# Altium schematic symbol library Schlib.SchLib: 22 symbols
Pins are listed as number, name and electrical type; pins without a type are passive.

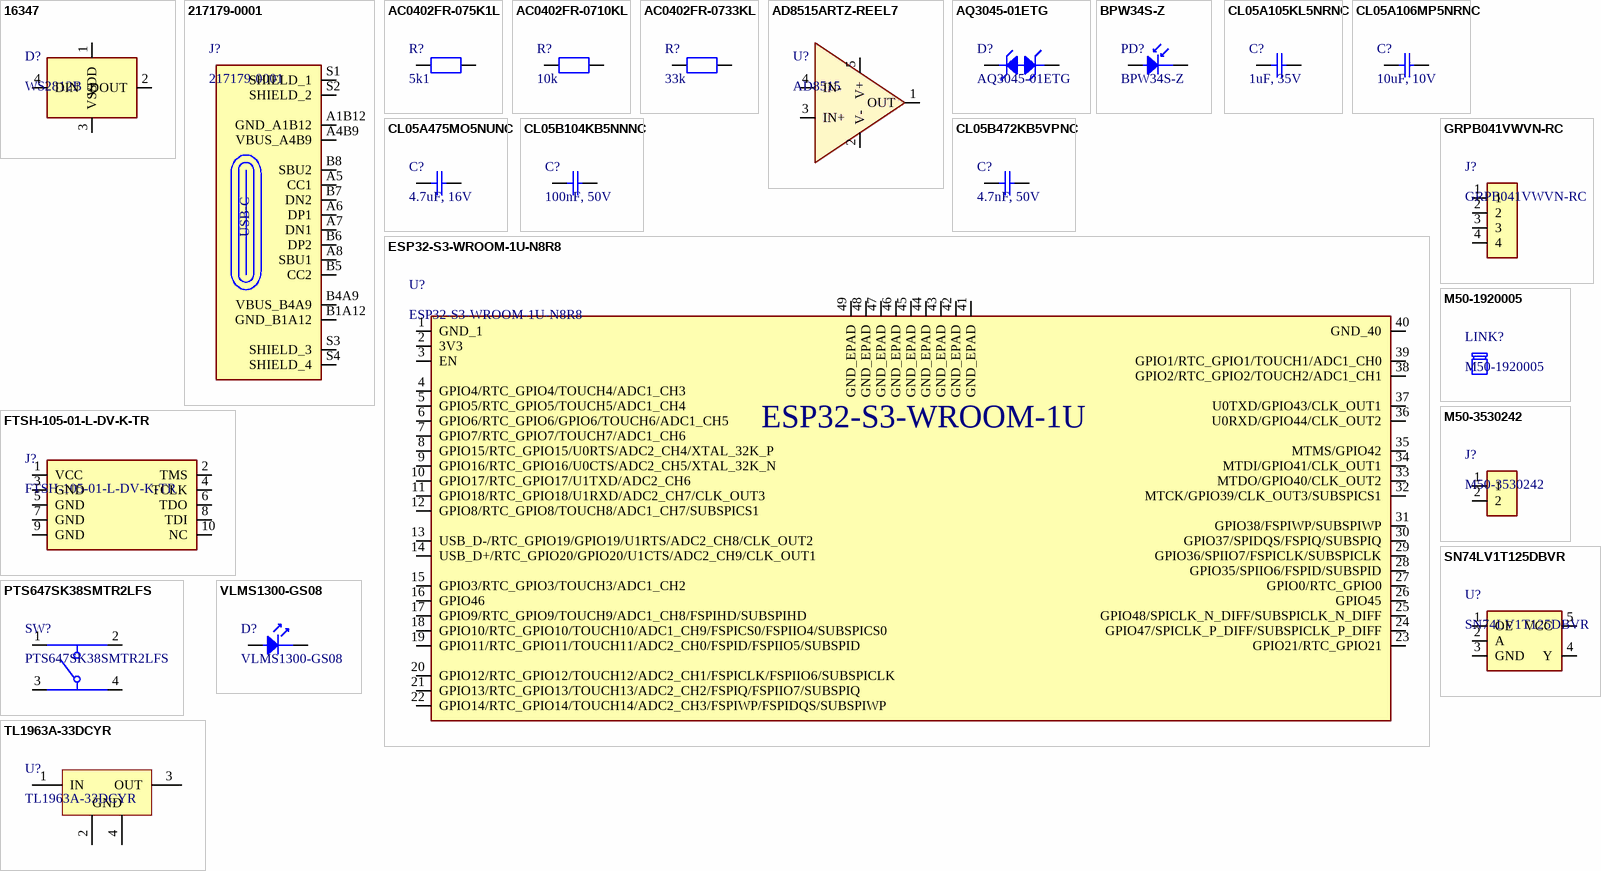
[diagram p0: symbols 16347 to VLMS1300-GS08]

## 16347
designator D?, comment WS2812B
ADDRESS LED RED/GRN/BLUE; Manufacturer: SparkFun; Manufacturer Part Number: 16347; Supplier: Digikey; Supplier Part Number: 1568-16347CT-ND; RoHS: No; Stock: 44982; Pricing: 1=0,68 (USD); LCSC Part Number: C7433145
footprint COM-16347_SPK
pins: 1 VDD, 2 DOUT, 3 VSS, 4 DIN

## 217179-0001
designator J?
CONN RCP USB2.0 TYP C 24P SMD RA; Manufacturer: Molex; Supplier: Digikey; Supplier Part Number: 900-2171790001CT-ND; Manufacturer Part Number: 217179-0001; RoHS: No; Category: Connectors; Stock: 20923; Pricing: 1=0,83, 10=0,704, 25=0,6596, 50=0,628, 100=0,598, 250=0,56052, 500=0,53374 (USD); LCSC Part Number: C3197684
footprint FP-2171790001-MFG
pins: A1B12 GND_A1B12, A4B9 VBUS_A4B9, A5 CC1, A6 DP1, A7 DN1, A8 SBU1, B1A12 GND_B1A12, B4A9 VBUS_B4A9, B5 CC2, B6 DP2, B7 DN2, B8 SBU2, S1 SHIELD_1, S2 SHIELD_2, S3 SHIELD_3, S4 SHIELD_4
text: USB-C

## AC0402FR-075K1L
designator R?, comment 5k1
RES SMD 5.1K OHM 1% 1/16W 0402; Manufacturer: Yageo; Manufacturer Part Number: AC0402FR-075K1L; Value: 5.1kR; Power Rating: 63mW; Temperature Coefficient: 100ppm/°C; Voltage Rating: 50V; Supplier: Digikey; Supplier Part Number: YAG3503CT-ND; RoHS: Yes; Category: Chip SMD Resistors; Stock: 60988; Pricing: 1=0,1, 10=0,009, 100=0,0071, 1000=0,00612, 2500=0,0051, 5000=0,00407 (USD); Mounting Technology: Surface Mount; Case/Package: 0402; Case Code (Metric): 1005; Case Code (Imperial): 0402; Min Operating Temperature: -55°C; Max Operating Temperature: 155°C; Tolerance: 1%; Number of Terminations: 2; Max Power Dissipation: 63mW; Features: Moisture Resistant,Automotive AEC-Q200; Packaging: Cut Tape; Series: AC; Length: 0.039inch; Width: 0.02inch; Height: 0.015inch; Lead Free: 5697LeadFree; RoHS Compliant: Yes; ComponentLink1URL: https://datasheet.octopart.com/AC0402FR-075K1L-Yageo-datasheet-166720450.pdf?src-supplier=Future+Electronics; ComponentLink1Description: https://datasheet.octopart.com/AC0402FR-075K1L-Yageo-datasheet-166720450.pdf?src-supplier=Future+Electronics; ComponentLink2URL: http://www.yageo.com/NewPortal/yageodocoutput?fileName=/pdf/R-Chip/PYu-AC_51_RoHS_L_6.pdf&src-supplier=Digikey; ComponentLink2Description: http://www.yageo.com/NewPortal/yageodocoutput?fileName=/pdf/R-Chip/PYu-AC_51_RoHS_L_6.pdf&src-supplier=Digikey; ComponentLink3URL: http://www.yageo.com/documents/recent/PYu-AC_51_RoHS_L_2_revised.pdf?src-supplier=Future+Electronics; ComponentLink3Description: http://www.yageo.com/documents/recent/PYu-AC_51_RoHS_L_2_revised.pdf?src-supplier=Future+Electronics; ComponentLink4URL: https://datasheet.octopart.com/AC0402FR-075K1L-Yageo-datasheet-178509465.pdf?src-supplier=Newark; ComponentLink4Description: https://datasheet.octopart.com/AC0402FR-075K1L-Yageo-datasheet-178509465.pdf?src-supplier=Newark; ComponentLink5URL: https://datasheet.octopart.com/AC0402FR-075K1L-Yageo-datasheet-178509465.pdf?src-supplier=Farnell; ComponentLink5Description: https://datasheet.octopart.com/AC0402FR-075K1L-Yageo-datasheet-178509465.pdf?src-supplier=Farnell; ComponentLink6URL: https://datasheet.octopart.com/AC0402FR-075K1L-Yageo-datasheet-178509465.pdf?src-supplier=Element14; ComponentLink6Description: https://datasheet.octopart.com/AC0402FR-075K1L-Yageo-datasheet-178509465.pdf?src-supplier=Element14; LCSC Part Number: C144745
footprint RESC1005X37N
pins: 1, 2

## AC0402FR-0710KL
designator R?, comment 10k
RES SMD 10K OHM 1% 1/16W 0402; Manufacturer: Yageo; Manufacturer Part Number: AC0402FR-0710KL; Additional Feature: LASER TRIMMABLE; Power: 62.5mW; Rated Temperature: 70°C; Value: 10kR; Working Voltage: 50V; Temperature Coefficient (ppm/Cel): 100; Package Height: 0.32mm; Package Length: 1mm; Package Width: 0.5mm; Reference Standard: AEC-Q200; Supplier: Digikey; Supplier Part Number: YAG3436CT-ND; RoHS: Yes; Category: Chip SMD Resistors; Stock: 624823; Pricing: 1=0,1, 10=0,009, 100=0,0082, 1000=0,00612, 2500=0,0051, 5000=0,00407 (USD); Mounting Technology: Surface Mount; Pins: 2; Package Shape: Rectangular; Case/Package: 0402; Terminal Finish: Nickel; Min Operating Temperature: -55°C; Max Operating Temperature: 155°C; Tolerance: 1%; JESD-609 Code: e3; Resistor Type: FIXED RESISTOR; Construction: Chip; Packaging: Tape and Reel; Technology: METAL GLAZE/THICK FILM; Termination: Wraparound; Reach SVHC Compliant: Yes; RoHS Compliant: Yes; ComponentLink1URL: https://datasheet.ciiva.com:443/pdfs/VipMasterIC/IC/YAGO/YAGO-S-A0003597364/YAGO-S-A0003597364-1.pdf?src-supplier=IHS+Markit; ComponentLink1Description: https://datasheet.ciiva.com:443/pdfs/VipMasterIC/IC/YAGO/YAGO-S-A0003597364/YAGO-S-A0003597364-1.pdf?src-supplier=IHS+Markit; ComponentLink2URL: https://datasheet.ciiva.com/12656/pyu-ac-51-rohs-l-2-12656634.pdf?src-supplier=Mouser; ComponentLink2Description: https://datasheet.ciiva.com/12656/pyu-ac-51-rohs-l-2-12656634.pdf?src-supplier=Mouser; LCSC Part Number: C144807
footprint RESC1005X37N
pins: 1, 2

## AC0402FR-0733KL
designator R?, comment 33k
RES SMD 33K OHM 1% 1/16W 0402; Manufacturer: Yageo; Manufacturer Part Number: AC0402FR-0733KL; Additional Feature: LASER TRIMMABLE; Power: 62.5mW; Rated Temperature: 70°C; Value: 33kR; Working Voltage: 50V; Temperature Coefficient (ppm/Cel): 100; Package Height: 0.32mm; Package Length: 1mm; Package Width: 0.5mm; Reference Standard: AEC-Q200; Supplier: Digikey; Supplier Part Number: YAG3477CT-ND; RoHS: Yes; Category: Chip SMD Resistors; Stock: 108993; Pricing: 1=0,1, 10=0,011, 100=0,0082, 1000=0,00612, 2500=0,0051, 5000=0,00407 (USD); Mounting Technology: Surface Mount; Pins: 2; Package Shape: Rectangular; Case/Package: 0402; Terminal Finish: Nickel; Min Operating Temperature: -55°C; Max Operating Temperature: 155°C; Tolerance: 1%; JESD-609 Code: e3; Resistor Type: FIXED RESISTOR; Construction: Chip; Packaging: Tape and Reel; Technology: METAL GLAZE/THICK FILM; Termination: Wraparound; Reach SVHC Compliant: Yes; RoHS Compliant: Yes; ComponentLink1URL: https://datasheet.ciiva.com:443/pdfs/VipMasterIC/IC/YAGO/YAGO-S-A0003597364/YAGO-S-A0003597364-1.pdf?src-supplier=IHS+Markit; ComponentLink1Description: https://datasheet.ciiva.com:443/pdfs/VipMasterIC/IC/YAGO/YAGO-S-A0003597364/YAGO-S-A0003597364-1.pdf?src-supplier=IHS+Markit; ComponentLink2URL: https://datasheet.octopart.com/AC0402FR-0733KL-Yageo-datasheet-178509465.pdf?src-supplier=Farnell; ComponentLink2Description: https://datasheet.octopart.com/AC0402FR-0733KL-Yageo-datasheet-178509465.pdf?src-supplier=Farnell; ComponentLink3URL: http://www.yageo.com/NewPortal/yageodocoutput?fileName=/pdf/R-Chip/PYu-AC_51_RoHS_L_6.pdf&src-supplier=Digikey; ComponentLink3Description: http://www.yageo.com/NewPortal/yageodocoutput?fileName=/pdf/R-Chip/PYu-AC_51_RoHS_L_6.pdf&src-supplier=Digikey; ComponentLink4URL: https://www.yageo.com/upload/media/product/productsearch/datasheet/rchip/PYu-AC_51_RoHS_L_7.pdf?src-supplier=Digikey; ComponentLink4Description: https://www.yageo.com/upload/media/product/productsearch/datasheet/rchip/PYu-AC_51_RoHS_L_7.pdf?src-supplier=Digikey; ComponentLink5URL: https://datasheet.octopart.com/AC0402FR-0733KL-Yageo-datasheet-178509465.pdf?src-supplier=Element14; ComponentLink5Description: https://datasheet.octopart.com/AC0402FR-0733KL-Yageo-datasheet-178509465.pdf?src-supplier=Element14; ComponentLink6URL: https://datasheet.octopart.com/AC0402FR-0733KL-Yageo-datasheet-178509465.pdf?src-supplier=Newark; ComponentLink6Description: https://datasheet.octopart.com/AC0402FR-0733KL-Yageo-datasheet-178509465.pdf?src-supplier=Newark; ComponentLink7URL: https://datasheet.octopart.com/AC0402FR-0733KL-Yageo-datasheet-166720450.pdf?src-supplier=Future+Electronics; ComponentLink7Description: https://datasheet.octopart.com/AC0402FR-0733KL-Yageo-datasheet-166720450.pdf?src-supplier=Future+Electronics; ComponentLink8URL: http://www.yageo.com/documents/recent/PYu-AC_51_RoHS_L_2_revised.pdf?src-supplier=Future+Electronics; ComponentLink8Description: http://www.yageo.com/documents/recent/PYu-AC_51_RoHS_L_2_revised.pdf?src-supplier=Future+Electronics; ComponentLink9URL: https://datasheet.octopart.com/AC0402FR-0733KL-Yageo-datasheet-140571090.pdf?src-supplier=Arrow.cn; ComponentLink9Description: https://datasheet.octopart.com/AC0402FR-0733KL-Yageo-datasheet-140571090.pdf?src-supplier=Arrow.cn; LCSC Part Number: C138291
footprint RESC1005X37N
pins: 1, 2

## AD8515ARTZ-REEL7
designator U?, comment AD8515
IC OPAMP GP 1 CIRCUIT SOT23-5; Manufacturer: Analog Devices; Manufacturer Part Number: AD8515ARTZ-REEL7; Package Body Material: Plastic; Amplifier Type: OPERATIONAL AMPLIFIER; Architecture: VOLTAGE-FEEDBACK; Average Bias Current-Max (IIB): 8nA; Bias Current-Max (IIB) @25C: 30pA; Common-mode Reject Ratio-Nom: 54dB; Frequency Compensation: YES; Input Offset Voltage-Max: 8mV; Low-Offset: No; Channels: 1; Package Equivalence Code: TSOP5/6,.11,37; Power Supplies: 1.8/5V; Slew Rate: 2.7V/µs; Max Supply Current: 600uA; Supply Voltage Limit-Max: 6V; Nominal Supply Voltage: 3V; Time @ Peak Reflow Temperature-Max (s): 40s; Unity Gain BW-Nom: 5MHz; Voltage Gain-Min: 110000; Qualification Status: Not Qualified; Supplier: Digikey; Supplier Part Number: 505-AD8515ARTZ-REEL7CT-ND; RoHS: Yes; Category: Amplifiers - Op Amps, Buffer, Instrumentation; Stock: 8412; Pricing: 1=1,92, 10=1,194, 25=1,004, 100=0,7882, 250=0,68224, 500=0,61708, 1000=0,56248 (USD); Case/Package: LSSOP; Pins: 5; Package Shape: Rectangular; Terminal Finish: Tin; Min Operating Temperature: -40°C; Max Operating Temperature: 125°C; JESD-609 Code: e3; JESD-30 Code: R-PDSO-G5; Low-Bias: Yes; Micropower: Yes; Moisture Sensitivity Level: 1; Package Style: SMALL OUTLINE, LOW PROFILE, SHRINK PITCHMeter; Packaging: Tape and Reel; Peak Reflow Temperature (Cel): 260°C; Power: No; Programmable Power: No; Surface Mount: Yes; Technology: CMOS; Terminal Form: Gull Wing; Terminal Position: DUAL; Wideband: No; Length: 2.9mm; Width: 1.6mm; Height - Seated (Max): 1.45mm; Terminal Pitch: 0.95mm; Temperature Grade: AUTOMOTIVE; Reach SVHC Compliant: Yes; RoHS Compliant: Yes; ComponentLink1URL: https://datasheet.ciiva.com:443/pdfs/VipMasterIC/IC/ANDI/ANDI-S-A0002885272/ANDI-S-A0002885272-1.pdf?src-supplier=IHS+Markit; ComponentLink1Description: https://datasheet.ciiva.com:443/pdfs/VipMasterIC/IC/ANDI/ANDI-S-A0002885272/ANDI-S-A0002885272-1.pdf?src-supplier=IHS+Markit; ComponentLink2URL: https://datasheet.ciiva.com/1793/ad8515-1793280.pdf?src-supplier=Digikey; ComponentLink2Description: https://datasheet.ciiva.com/1793/ad8515-1793280.pdf?src-supplier=Digikey; ComponentLink3URL: https://datasheet.ciiva.com/1793/ad8515-1793281.pdf?src-supplier=Digikey; ComponentLink3Description: https://datasheet.ciiva.com/1793/ad8515-1793281.pdf?src-supplier=Digikey; ComponentLink4URL: https://datasheet.ciiva.com/1793/ad8515-1793282.pdf?src-supplier=Digikey; ComponentLink4Description: https://datasheet.ciiva.com/1793/ad8515-1793282.pdf?src-supplier=Digikey; ComponentLink5URL: https://datasheet.ciiva.com/10326/ad8515-10326750.pdf?src-supplier=Avnet; ComponentLink5Description: https://datasheet.ciiva.com/10326/ad8515-10326750.pdf?src-supplier=Avnet; ComponentLink6URL: https://datasheet.ciiva.com/46385/189715-46385032.pdf?src-supplier=Element14; ComponentLink6Description: https://datasheet.ciiva.com/46385/189715-46385032.pdf?src-supplier=Element14; LCSC Part Number: C89478
footprint SOT95P280X145-5N
pins: 1 OUT, 2 V-, 3 IN+, 4 IN-, 5 V+

## AQ3045-01ETG
designator D?
TVS DIODE 5.3VWM 12VC SOD882; Manufacturer: Littelfuse; Diode Element Material: SILICON; Package Body Material: Plastic; Polarity: Bidirectional; Max Breakdown Voltage: 9V; Min Breakdown Voltage: 6.8V; Diode Type: TRANS VOLTAGE SUPPRESSOR; Non-rep Peak Rev Power Dis-Max: 40W; Number of Elements: 1; Rep Pk Reverse Voltage-Max: 5.3V; Reference Standard: AEC-Q101; Supplier: Digikey; Supplier Part Number: F9321CT-ND; Manufacturer Part Number: AQ3045-01ETG; RoHS: Yes; Category: TVS Diodes; Stock: 7460; Pricing: 1=0,45, 10=0,29, 100=0,141, 500=0,134, 1000=0,131 (USD); Pins: 2; Package Shape: Rectangular; Min Operating Temperature: -55°C; Max Operating Temperature: 150°C; Package Style: CHIP CARRIERMeter; Surface Mount: Yes; Technology: AVALANCHE; Terminal Form: No Lead; Terminal Position: BOTTOM; Reach SVHC Compliant: Yes; RoHS Compliant: Yes; ComponentLink1URL: https://datasheet.ciiva.com:443/pdfs/VipMasterIC/IC/LFSI/LFSI-S-A0007892042/LFSI-S-A0007892042-1.pdf?src-supplier=IHS+Markit; ComponentLink1Description: https://datasheet.ciiva.com:443/pdfs/VipMasterIC/IC/LFSI/LFSI-S-A0007892042/LFSI-S-A0007892042-1.pdf?src-supplier=IHS+Markit; ComponentLink2URL: https://www.littelfuse.com/~/media/electronics/datasheets/tvs_diode_arrays/littelfuse_tvs_diode_array_aq3045_datasheet.pdf.pdf?src-supplier=Digikey; ComponentLink2Description: https://www.littelfuse.com/~/media/electronics/datasheets/tvs_diode_arrays/littelfuse_tvs_diode_array_aq3045_datasheet.pdf.pdf?src-supplier=Digikey; ComponentLink3URL: http://www.littelfuse.com/~/media/electronics/datasheets/tvs_diode_arrays/littelfuse_tvs_diode_array_aq3045_datasheet.pdf.pdf?src-supplier=Digikey; ComponentLink3Description: http://www.littelfuse.com/~/media/electronics/datasheets/tvs_diode_arrays/littelfuse_tvs_diode_array_aq3045_datasheet.pdf.pdf?src-supplier=Digikey; LCSC Part Number: C3710326
footprint RTVS_SOD882_LTF
pins: 1, 2

## BPW34S-Z
designator PD?
SENSOR PHOTODIODE 850NM 2SMD GW; Manufacturer: Osram Opto; Shape: Square; Dark Current-Max: 30nA; Infrared Range: Yes; Light Current-Nom: 50uA; Channels: 1; Optoelectronic Device Type: PIN PHOTODIODE; Reverse Breakdown Voltage-Min: 32V; Supplier: Digikey; Supplier Part Number: 475-BPW34S-ZCT-ND; Manufacturer Part Number: BPW34S-Z; RoHS: Yes; Category: Phototransistor; Stock: 32968; Pricing: 1=1,17, 10=0,824, 100=0,6131, 500=0,51934 (USD); Terminal Finish: Tin; Min Operating Temperature: -40°C; Max Operating Temperature: 100°C; JESD-609 Code: e3; Size: 2.65mm; Reach SVHC Compliant: Yes; RoHS Compliant: Yes; ComponentLink1URL: https://datasheet.ciiva.com:443/pdfs/VipMasterIC/IC/OSOS/OSOS-S-A0005288917/OSOS-S-A0005288917-1.pdf?src-supplier=IHS+Markit; ComponentLink1Description: https://datasheet.ciiva.com:443/pdfs/VipMasterIC/IC/OSOS/OSOS-S-A0005288917/OSOS-S-A0005288917-1.pdf?src-supplier=IHS+Markit; ComponentLink2URL: https://datasheet.ciiva.com/2819/bpw34-spdf-2819825.pdf?src-supplier=Digikey; ComponentLink2Description: https://datasheet.ciiva.com/2819/bpw34-spdf-2819825.pdf?src-supplier=Digikey; ComponentLink3URL: https://datasheet.ciiva.com/2819/bpw34-spdf-2819826.pdf?src-supplier=Digikey; ComponentLink3Description: https://datasheet.ciiva.com/2819/bpw34-spdf-2819826.pdf?src-supplier=Digikey; ComponentLink4URL: https://datasheet.ciiva.com/2819/bpw34-spdf-2819827.pdf?src-supplier=Digikey; ComponentLink4Description: https://datasheet.ciiva.com/2819/bpw34-spdf-2819827.pdf?src-supplier=Digikey; LCSC Part Number: C67891
footprint DIO_BPW_34_S-Z
pins: 1, 2

## CL05A105KL5NRNC
designator C?, comment 1uF, 35V
CAP CER 1UF 35V X5R 0402; Manufacturer: Samsung; Manufacturer Part Number: CL05A105KL5NRNC; Dielectric Material: Ceramic; Multilayer: Yes; Tolerance  (fill in as +-): 10%; Supplier: Digikey; Supplier Part Number: 1276-6796-1-ND; RoHS: Yes; Category: Ceramic Capacitors; Stock: 72807; Pricing: 1=0,29, 10=0,17, 100=0,1097, 1000=0,07829, 2500=0,07048, 5000=0,06578 (USD); Mounting Technology: Surface Mount; Pins: 2; Package Shape: Rectangular; Case/Package: 0402; Terminal Finish: Nickel; Min Operating Temperature: -55°C; Max Operating Temperature: 85°C; JESD-609 Code: e3; Value: 1uF; Capacitor Type: Ceramic; Packaging: Tape and Reel; Tolerance (fill in as +-): 10%; Rated DC Voltage (URdc): 35V; Temperature Characteristics Code: X5R; Termination: Wraparound; Reach SVHC Compliant: Yes; RoHS Compliant: Yes; ComponentLink1URL: https://datasheet.ciiva.com:443/pdfs/VipMasterIC/IC/SEMS/SEMS-S-A0008384515/SEMS-S-A0008872905-1.pdf?src-supplier=IHS+Markit; ComponentLink1Description: https://datasheet.ciiva.com:443/pdfs/VipMasterIC/IC/SEMS/SEMS-S-A0008384515/SEMS-S-A0008872905-1.pdf?src-supplier=IHS+Markit; ComponentLink2URL: http://www.samsungsem.com/kr/support/product-search/mlcc/CL05A105KL5NRNC.jsp?src-supplier=Digikey; ComponentLink2Description: http://www.samsungsem.com/kr/support/product-search/mlcc/CL05A105KL5NRNC.jsp?src-supplier=Digikey; ComponentLink3URL: https://datasheet.octopart.com/CL05A105KL5NRNC-Samsung-datasheet-8326407.pdf?src-supplier=TME; ComponentLink3Description: https://datasheet.octopart.com/CL05A105KL5NRNC-Samsung-datasheet-8326407.pdf?src-supplier=TME; LCSC Part Number: C307413
footprint CAPC1005X70N
pins: 1, 2

## CL05A106MP5NRNC
designator C?, comment 10uF, 10V
CAP CER 10UF 10V X5R 0402; Manufacturer: Samsung; Manufacturer Part Number: CL05A106MP5NRNC; Dielectric Material: Ceramic; Multilayer: Yes; Tolerance  (fill in as +-): 20%; Supplier: Digikey; Supplier Part Number: 1276-CL05A106MP5NRNCCT-ND; RoHS: Yes; Category: Ceramic Capacitors; Stock: 49767; Pricing: 1=0,24, 10=0,141, 100=0,0894, 1000=0,06284, 2500=0,05624, 5000=0,05227 (USD); Mounting Technology: Surface Mount; Pins: 2; Package Shape: Rectangular; Case/Package: 0402; Terminal Finish: Nickel; Min Operating Temperature: -55°C; Max Operating Temperature: 85°C; JESD-609 Code: e3; Value: 10uF; Capacitor Type: Ceramic; Packaging: Tape and Reel; Tolerance (fill in as +-): 20%; Rated DC Voltage (URdc): 10V; Temperature Characteristics Code: X5R; Termination: Wraparound; Reach SVHC Compliant: Yes; RoHS Compliant: Yes; ComponentLink1URL: https://datasheet.ciiva.com:443/pdfs/VipMasterIC/IC/SEMS/SEMS-S-A0008520814/SEMS-S-A0008520734-1.pdf?src-supplier=IHS+Markit; ComponentLink1Description: https://datasheet.ciiva.com:443/pdfs/VipMasterIC/IC/SEMS/SEMS-S-A0008520814/SEMS-S-A0008520734-1.pdf?src-supplier=IHS+Markit; LCSC Part Number: C3035383
footprint CAPC1005X70N
pins: 1, 2

## CL05A475MO5NUNC
designator C?, comment 4.7uF, 16V
CAP CER 4.7UF 16V X5R 0402; Manufacturer: Samsung; Manufacturer Part Number: CL05A475MO5NUNC; Dielectric Material: Ceramic; Multilayer: Yes; Tolerance  (fill in as +-): 20%; Supplier: Digikey; Supplier Part Number: 1276-6836-1-ND; RoHS: Yes; Category: Ceramic Capacitors; Stock: 3323; Pricing: 1=0,15, 10=0,091, 100=0,0851 (USD); Mounting Technology: Surface Mount; Pins: 2; Package Shape: Rectangular; Case/Package: 0402; Terminal Finish: Nickel; Min Operating Temperature: -55°C; Max Operating Temperature: 85°C; JESD-609 Code: e3; Value: 4.7uF; Capacitor Type: Ceramic; Package Style: SMTMeter; Packaging: Tape and Reel; Tolerance (fill in as +-): 20%; Rated DC Voltage (URdc): 16V; Temperature Characteristics Code: X5R; Termination: Wraparound; Length: 1mm; Width: 0.5mm; Height: 0.7mm; Reach SVHC Compliant: Yes; RoHS Compliant: Yes; ComponentLink1URL: https://datasheet.ciiva.com:443/pdfs/VipMasterIC/IC/SEMS/SEMS-S-A0008384515/SEMS-S-A0008898881-1.pdf?src-supplier=IHS+Markit; ComponentLink1Description: https://datasheet.ciiva.com:443/pdfs/VipMasterIC/IC/SEMS/SEMS-S-A0008384515/SEMS-S-A0008898881-1.pdf?src-supplier=IHS+Markit; ComponentLink2URL: http://www.farnell.com/datasheets/2710653.pdf?src-supplier=Farnell; ComponentLink2Description: http://www.farnell.com/datasheets/2710653.pdf?src-supplier=Farnell; ComponentLink3URL: http://www.samsungsem.com/kr/support/product-search/mlcc/CL05A475MO5NUNC.jsp?src-supplier=Digikey; ComponentLink3Description: http://www.samsungsem.com/kr/support/product-search/mlcc/CL05A475MO5NUNC.jsp?src-supplier=Digikey; ComponentLink4URL: http://www.farnell.com/datasheets/2710653.pdf?src-supplier=Newark; ComponentLink4Description: http://www.farnell.com/datasheets/2710653.pdf?src-supplier=Newark; ComponentLink5URL: http://www.farnell.com/datasheets/2710653.pdf?src-supplier=Element14; ComponentLink5Description: http://www.farnell.com/datasheets/2710653.pdf?src-supplier=Element14; ComponentLink6URL: https://datasheet.octopart.com/CL05A475MO5NUNC-Samsung-Electro-Mechanics-datasheet-123102911.pdf?src-supplier=Future+Electronics; ComponentLink6Description: https://datasheet.octopart.com/CL05A475MO5NUNC-Samsung-Electro-Mechanics-datasheet-123102911.pdf?src-supplier=Future+Electronics; LCSC Part Number: C318563
footprint CAPC1005X70N
pins: 1, 2

## CL05B104KB5NNNC
designator C?, comment 100nF, 50V
CAP CER 0.1UF 50V X7R 0402; Manufacturer: Samsung; Manufacturer Part Number: CL05B104KB5NNNC; Dielectric Material: Ceramic; Multilayer: Yes; Tolerance  (fill in as +-): 10%; Supplier: Digikey; Supplier Part Number: 1276-CL05B104KB5NNNCCT-ND; RoHS: Yes; Category: Ceramic Capacitors; Stock: 302298; Pricing: 1=0,08, 10=0,018, 100=0,012, 1000=0,008, 2500=0,00768 (USD); Mounting Technology: Surface Mount; Pins: 2; Package Shape: Rectangular; Case/Package: 0402; Terminal Finish: Nickel; Min Operating Temperature: -55°C; Max Operating Temperature: 125°C; JESD-609 Code: e3; Value: 100nF; Capacitor Type: Ceramic; Packaging: Tape and Reel; Tolerance (fill in as +-): 10%; Rated DC Voltage (URdc): 50V; Temperature Characteristics Code: X7R; Termination: Wraparound; Reach SVHC Compliant: Yes; RoHS Compliant: Yes; ComponentLink1URL: https://datasheet.ciiva.com:443/pdfs/VipMasterIC/IC/SEMS/SEMS-S-A0008523115/SEMS-S-A0008523176-1.pdf?src-supplier=IHS+Markit; ComponentLink1Description: https://datasheet.ciiva.com:443/pdfs/VipMasterIC/IC/SEMS/SEMS-S-A0008523115/SEMS-S-A0008523176-1.pdf?src-supplier=IHS+Markit; ComponentLink2URL: https://datasheet.octopart.com/CL05B104KB5NNNC-Samsung-datasheet-97040617.pdf?src-supplier=Future+Electronics; ComponentLink2Description: https://datasheet.octopart.com/CL05B104KB5NNNC-Samsung-datasheet-97040617.pdf?src-supplier=Future+Electronics; ComponentLink3URL: https://datasheet.octopart.com/CL05B104KB5NNNC-Samsung-datasheet-8326407.pdf?src-supplier=TME; ComponentLink3Description: https://datasheet.octopart.com/CL05B104KB5NNNC-Samsung-datasheet-8326407.pdf?src-supplier=TME; LCSC Part Number: C960916
footprint CAPC1005X70N
pins: 1, 2

## CL05B472KB5VPNC
designator C?, comment 4.7nF, 50V
CAP CER 4700PF 50V X7R 0402; Manufacturer: Samsung; Manufacturer Part Number: CL05B472KB5VPNC; Dielectric Material: Ceramic; Multilayer: Yes; Tolerance  (fill in as +-): 10%; Reference Standard: AEC-Q200; Supplier: Digikey; Supplier Part Number: 1276-6576-1-ND; RoHS: Yes; Category: Ceramic Capacitors; Stock: 112941; Pricing: 1=0,1, 10=0,031, 100=0,0179, 1000=0,01116, 2500=0,0095, 5000=0,00851 (USD); Mounting Technology: Surface Mount; Pins: 2; Package Shape: Rectangular; Case/Package: 0402; Terminal Finish: Nickel; Min Operating Temperature: -55°C; Max Operating Temperature: 125°C; JESD-609 Code: e3; Value: 4.7nF; Capacitor Type: Ceramic; Packaging: Tape and Reel; Tolerance (fill in as +-): 10%; Rated DC Voltage (URdc): 50V; Temperature Characteristics Code: X7R; Termination: Wraparound; Reach SVHC Compliant: Yes; RoHS Compliant: Yes; ComponentLink1URL: https://datasheet.ciiva.com:443/pdfs/VipMasterIC/IC/SEMS/SEMS-S-A0007757376/SEMS-S-A0007757405-1.pdf?src-supplier=IHS+Markit; ComponentLink1Description: https://datasheet.ciiva.com:443/pdfs/VipMasterIC/IC/SEMS/SEMS-S-A0007757376/SEMS-S-A0007757405-1.pdf?src-supplier=IHS+Markit; ComponentLink2URL: http://www.samsungsem.com/kr/support/product-search/mlcc/CL05B472KB5VPNC.jsp?src-supplier=Digikey; ComponentLink2Description: http://www.samsungsem.com/kr/support/product-search/mlcc/CL05B472KB5VPNC.jsp?src-supplier=Digikey; ComponentLink3URL: http://www.samsungsem.com/kr/support/library/product-catalog/mlcc.jsp?src-supplier=Digikey; ComponentLink3Description: http://www.samsungsem.com/kr/support/library/product-catalog/mlcc.jsp?src-supplier=Digikey; ComponentLink4URL: http://www.samsungsem.com/servlet/FileDownload?type=spec&file=CL05B472KB5VPNC.pdf&src-supplier=Avnet; ComponentLink4Description: http://www.samsungsem.com/servlet/FileDownload?type=spec&file=CL05B472KB5VPNC.pdf&src-supplier=Avnet; ComponentLink5URL: https://datasheet.octopart.com/CL05B472KB5VPNC-Samsung-Electro-Mechanics-datasheet-133510618.pdf?src-supplier=Future+Electronics; ComponentLink5Description: https://datasheet.octopart.com/CL05B472KB5VPNC-Samsung-Electro-Mechanics-datasheet-133510618.pdf?src-supplier=Future+Electronics; LCSC Part Number: C307338
footprint CAPC1005X70N
pins: 1, 2

## ESP32-S3-WROOM-1U-N8R8
designator U?
SMD Module, ESP32-S3R8 With 8 mb; Manufacturer: Espressif Systems; Supplier: Digikey; Supplier Part Number: 1965-ESP32-S3-WROOM-1U-N8R8CT-ND; Manufacturer Part Number: ESP32-S3-WROOM-1U-N8R8; RoHS: No; Category: Uncategorized; Stock: 7165; Pricing: 1=6,13, 10=5,313, 25=5,0276, 100=4,635, 250=4,39984 (USD); ComponentLink1URL: https://datasheet.octopart.com/ESP32-S3-WROOM-1U-N8R8-Espressif-Systems-datasheet-165560563.pdf?src-supplier=TME; ComponentLink1Description: https://datasheet.octopart.com/ESP32-S3-WROOM-1U-N8R8-Espressif-Systems-datasheet-165560563.pdf?src-supplier=TME; LCSC Part Number: C2980300
footprint XCVR_ESP32-S3-WROOM-1U
pins: 1 GND_1, 2 3V3, 3 EN, 4 GPIO4/RTC_GPIO4/TOUCH4/ADC1_CH3, 5 GPIO5/RTC_GPIO5/TOUCH5/ADC1_CH4, 6 GPIO6/RTC_GPIO6/GPIO6/TOUCH6/ADC1_CH5, 7 GPIO7/RTC_GPIO7/TOUCH7/ADC1_CH6, 8 GPIO15/RTC_GPIO15/U0RTS/ADC2_CH4/XTAL_32K_P, 9 GPIO16/RTC_GPIO16/U0CTS/ADC2_CH5/XTAL_32K_N, 10 GPIO17/RTC_GPIO17/U1TXD/ADC2_CH6, 11 GPIO18/RTC_GPIO18/U1RXD/ADC2_CH7/CLK_OUT3, 12 GPIO8/RTC_GPIO8/TOUCH8/ADC1_CH7/SUBSPICS1, 13 USB_D-/RTC_GPIO19/GPIO19/U1RTS/ADC2_CH8/CLK_OUT2, 14 USB_D+/RTC_GPIO20/GPIO20/U1CTS/ADC2_CH9/CLK_OUT1, 15 GPIO3/RTC_GPIO3/TOUCH3/ADC1_CH2, 16 GPIO46, 17 GPIO9/RTC_GPIO9/TOUCH9/ADC1_CH8/FSPIHD/SUBSPIHD, 18 GPIO10/RTC_GPIO10/TOUCH10/ADC1_CH9/FSPICS0/FSPIIO4/SUBSPICS0, 19 GPIO11/RTC_GPIO11/TOUCH11/ADC2_CH0/FSPID/FSPIIO5/SUBSPID, 20 GPIO12/RTC_GPIO12/TOUCH12/ADC2_CH1/FSPICLK/FSPIIO6/SUBSPICLK, 21 GPIO13/RTC_GPIO13/TOUCH13/ADC2_CH2/FSPIQ/FSPIIO7/SUBSPIQ, 22 GPIO14/RTC_GPIO14/TOUCH14/ADC2_CH3/FSPIWP/FSPIDQS/SUBSPIWP, 23 GPIO21/RTC_GPIO21, 24 GPIO47/SPICLK_P_DIFF/SUBSPICLK_P_DIFF, 25 GPIO48/SPICLK_N_DIFF/SUBSPICLK_N_DIFF, 26 GPIO45, 27 GPIO0/RTC_GPIO0, 28 GPIO35/SPIIO6/FSPID/SUBSPID, 29 GPIO36/SPIIO7/FSPICLK/SUBSPICLK, 30 GPIO37/SPIDQS/FSPIQ/SUBSPIQ, 31 GPIO38/FSPIWP/SUBSPIWP, 32 MTCK/GPIO39/CLK_OUT3/SUBSPICS1, 33 MTDO/GPIO40/CLK_OUT2, 34 MTDI/GPIO41/CLK_OUT1, 35 MTMS/GPIO42, 36 U0RXD/GPIO44/CLK_OUT2, 37 U0TXD/GPIO43/CLK_OUT1, 38 GPIO2/RTC_GPIO2/TOUCH2/ADC1_CH1, 39 GPIO1/RTC_GPIO1/TOUCH1/ADC1_CH0, 40 GND_40, 41 GND_EPAD, 42 GND_EPAD, 43 GND_EPAD, 44 GND_EPAD, 45 GND_EPAD, 46 GND_EPAD, 47 GND_EPAD, 48 GND_EPAD, 49 GND_EPAD
text: ESP32-S3-WROOM-1U

## FTSH-105-01-L-DV-K-TR
designator J?
CONN HEADER SMD 10POS 1.27MM; Manufacturer: Samtec; Connector Type: BOARD CONNECTOR; Option: General Purpose; Additional Feature: TAPE AND REEL; Contact Pattern: RECTANGULAR; Contact Style: SQ PIN-SKT; Filter Feature: No; Mating Information: MULTIPLE MATING PARTS AVAILABLE; Number Of Connectors: 1; Number Of PCB Rows: 2; Rated Current (Signal): 3.3A; Number of Contacts: 10; Body Breadth: 0.135inch; Body Depth: 0.115inch; Body Length: 0.247inch; Mating Contact Pitch: 0.05inch; Mounting Option 1: LOCKING; PCB Contact Row Spacing: 4.064mm; Plating Thickness: 10uin; Reference Standard: UL; Reliability: COMMERCIAL; Supplier: Digikey; Supplier Part Number: SAM13165CT-ND; Manufacturer Part Number: FTSH-105-01-L-DV-K-TR; RoHS: Yes; Category: Headers and Wire Housings; Stock: 19234; Pricing: 1=2,58, 100=2,03, 250=1,83 (USD); Mounting Technology: Board; Contact Material: Bronze; Contact Finish - Mating: GOLD (10) OVER NICKEL (50); Contact Finish - Termination: Tin (Sn) - with Nickel (Ni) barrier; Insulation Color: Black; Insulation Material: Polymer; Min Operating Temperature: -55°C; Max Operating Temperature: 125°C; JESD-609 Code: e3; Contact Gender: Male; Mixed Contacts: No; Mounting Style: STRAIGHT; Number of Rows Loaded: 2; PCB Contact Pattern: RECTANGULAR; Termination: SMD/SMT; Mating Contact Row Spacing: 0.05inch; Terminal Pitch: 1.27mm; DIN Conformance: No; IEC Conformance: No; MIL Conformance: No; Reach SVHC Compliant: Yes; RoHS Compliant: Yes; ComponentLink1URL: https://datasheet.ciiva.com:443/pdfs/VipMasterIC/IC/SAMI/SAMI-S-A0003531380/SAMI-S-A0003531380-1.pdf?src-supplier=IHS+Markit; ComponentLink1Description: https://datasheet.ciiva.com:443/pdfs/VipMasterIC/IC/SAMI/SAMI-S-A0003531380/SAMI-S-A0003531380-1.pdf?src-supplier=IHS+Markit; ComponentLink2URL: https://datasheet.ciiva.com/10245/ftsh-mt-10245289.pdf?src-supplier=Avnet; ComponentLink2Description: https://datasheet.ciiva.com/10245/ftsh-mt-10245289.pdf?src-supplier=Avnet; ComponentLink3URL: https://datasheet.ciiva.com/739/ftsh-1xx-xx-xxx-dv-xxx-mkt-739005.pdf?src-supplier=Digikey; ComponentLink3Description: https://datasheet.ciiva.com/739/ftsh-1xx-xx-xxx-dv-xxx-mkt-739005.pdf?src-supplier=Digikey; ComponentLink4URL: https://datasheet.ciiva.com/23735/81359-23735917.pdf?src-supplier=Newark; ComponentLink4Description: https://datasheet.ciiva.com/23735/81359-23735917.pdf?src-supplier=Newark; LCSC Part Number: *
footprint SAMTEC_FTSH-105-XX-X-DV
pins: 1 VCC, 2 TMS, 3 GND, 4 TCLK, 5 GND, 6 TDO, 7 GND, 8 TDI, 9 GND, 10 NC

## GRPB041VWVN-RC
designator J?
CONN HEADER VERT 4POS 1.27MM; Manufacturer: Sullins; Manufacturer Series: GRPB; Description: Board Connector, 4 Contact(s), 1 Row(s), Male, Straight, Solder Terminal; Connector Type: BOARD CONNECTOR; Option: General Purpose; Filter Feature: No; Number of Rows Loaded: 1; Number of Contacts: 4; Supplier: Digikey; Supplier Part Number: S9014E-04-ND; Manufacturer Part Number: GRPB041VWVN-RC; RoHS: Yes; Category: Connectors; Stock: 10602; Pricing: 1=0,25, 10=0,212, 100=0,1804, 500=0,16098, 1000=0,15328, 5000=0,13682, 10000=0,13029 (USD); Mounting Technology: Board; Contact Material: Brass; Contact Finish - Mating: GOLD FLASH; Contact Finish - Termination: GOLD FLASH; JESD-609 Code: e4; Contact Gender: Male; Mixed Contacts: No; Mounting Style: STRAIGHT; Termination: Solder; Terminal Pitch: 1.27mm; Flammability Rating: UL94 V-0; Reach SVHC Compliant: Yes; RoHS Compliant: Yes; DIN Conformance: No; IEC Conformance: No; MIL Conformance: No; ComponentLink1URL: https://datasheet.ciiva.com:443/pdfs/VipMasterIC/IC/SUCS/SUCSS00161/SUCSS00161-1.pdf?src-supplier=IHS+Markit; ComponentLink1Description: https://datasheet.ciiva.com:443/pdfs/VipMasterIC/IC/SUCS/SUCSS00161/SUCSS00161-1.pdf?src-supplier=IHS+Markit; ComponentLink2URL: https://datasheet.ciiva.com/726/71-grpb-1vwvn-rc-10957-c-726650.pdf?src-supplier=Digikey; ComponentLink2Description: https://datasheet.ciiva.com/726/71-grpb-1vwvn-rc-10957-c-726650.pdf?src-supplier=Digikey; LCSC Part Number: C7198233
footprint GRPB041VWVN-RC
pins: 1, 2, 3, 4

## M50-1920005
designator LINK?  (mechanical)
CONN SHUNT 1.27MM RED; Manufacturer: Harwin; Manufacturer Series: M50; Connector Type: Interconnection Device; Body/Shell Style: PLUG; Contact Pattern: RECTANGULAR; Contact Resistance: 20mR; Dielectric Withstanding Voltage (AC): 500V; Durability: 300Cycles; Insulation Resistance: 1GR; Number Of Connectors: 1; Rated Current (Signal): 1A; Number of Contacts: 2; Body Breadth: 0.059inch; Body Depth: 0.118inch; Body Length: 0.098inch; Mating Contact Pitch: 0.05inch; Reference Standard: UL; Reliability: COMMERCIAL; Supplier: Digikey; Supplier Part Number: 952-1727-ND; Manufacturer Part Number: M50-1920005; RoHS: Yes; Category: Headers and Wire Housings; Stock: 4343; Pricing: 1=0,33, 10=0,284, 25=0,2664, 50=0,2536, 100=0,2414, 250=0,22628, 500=0,21546, 1000=0,20516, 3000=0,18984 (USD); Contact Material: Copper Alloy; Contact Finish - Mating: AU ON NI; Contact Finish - Termination: Gold (Au); Insulation Color: Red; Insulation Material: Nylon; Min Operating Temperature: -40°C; Max Operating Temperature: 105°C; JESD-609 Code: e4; Contact Gender: Female; Mounting Style: STRAIGHT; Number of Rows Loaded: 1; Reach SVHC Compliant: Yes; RoHS Compliant: Yes; ComponentLink1URL: https://datasheet.ciiva.com:443/pdfs/VipMasterIC/IC/HRWN/HRWNS04645/HRWNS04645-1.pdf?src-supplier=IHS+Markit; ComponentLink1Description: https://datasheet.ciiva.com:443/pdfs/VipMasterIC/IC/HRWN/HRWNS04645/HRWNS04645-1.pdf?src-supplier=IHS+Markit; ComponentLink2URL: https://datasheet.ciiva.com/4573/m50-19x-350826-4573042.pdf?src-supplier=Mouser; ComponentLink2Description: https://datasheet.ciiva.com/4573/m50-19x-350826-4573042.pdf?src-supplier=Mouser; ComponentLink3URL: https://datasheet.ciiva.com/767/m50-19x-767921.pdf?src-supplier=Digikey; ComponentLink3Description: https://datasheet.ciiva.com/767/m50-19x-767921.pdf?src-supplier=Digikey; ComponentLink4URL: https://datasheet.ciiva.com/1456/m50-19x-1456640.pdf?src-supplier=Newark; ComponentLink4Description: https://datasheet.ciiva.com/1456/m50-19x-1456640.pdf?src-supplier=Newark; ComponentLink5URL: https://datasheet.ciiva.com/1412/1836978-1412125.pdf?src-supplier=Element14; ComponentLink5Description: https://datasheet.ciiva.com/1412/1836978-1412125.pdf?src-supplier=Element14; LCSC Part Number: C6985646

## M50-3530242
designator J?
CONN HEADER VERT 2POS 1.27MM; Manufacturer: Harwin; Connector Type: BOARD CONNECTOR; Option: General Purpose; Filter Feature: No; Number of Rows Loaded: 1; Number of Contacts: 2; Supplier: Digikey; Supplier Part Number: 952-3598-ND; Manufacturer Part Number: M50-3530242; RoHS: Yes; Category: Headers and Wire Housings; Stock: 31275; Pricing: 1=0,1, 10=0,084, 100=0,0713, 500=0,06358, 1000=0,06054, 5000=0,05403, 10000=0,05145 (USD); Mounting Technology: Board; Contact Finish - Mating: NOT SPECIFIED; Contact Gender: Male; Mixed Contacts: No; Mounting Style: STRAIGHT; Termination: Solder; Terminal Pitch: 1.27mm; Flammability Rating: UL94 V-0; Reach SVHC Compliant: Yes; RoHS Compliant: Yes; DIN Conformance: No; IEC Conformance: No; MIL Conformance: No; ComponentLink1URL: https://datasheet.ciiva.com:443/pdfs/VipMasterIC/IC/HRWN/HRWN-S-A0002541787/HRWN-S-A0002541787-1.pdf?src-supplier=IHS+Markit; ComponentLink1Description: https://datasheet.ciiva.com:443/pdfs/VipMasterIC/IC/HRWN/HRWN-S-A0002541787/HRWN-S-A0002541787-1.pdf?src-supplier=IHS+Markit; ComponentLink2URL: https://cdn.harwin.com/pdfs/Harwin_PC_Connectors_Archer.pdf?src-supplier=Digikey; ComponentLink2Description: https://cdn.harwin.com/pdfs/Harwin_PC_Connectors_Archer.pdf?src-supplier=Digikey; LCSC Part Number: C3325334
footprint HARWIN_M50-3530242
pins: 1, 2

## PTS647SK38SMTR2LFS
designator SW?
SWITCH TACTILE SPST-NO 0.05A 12V; Manufacturer: ITT C&K; Supplier: Digikey; Supplier Part Number: PTS647SK38SMTR2LFSCT-ND; Manufacturer Part Number: PTS647SK38SMTR2LFS; RoHS: No; Category: Tactile Switches; Stock: 4966; Pricing: 1=0,26, 10=0,226, 25=0,2116, 100=0,1897, 250=0,17588, 500=0,16596, 1000=0,15666 (USD); RoHS Compliant: Yes; ComponentLink1URL: http://datasheet.octopart.com/PTS647SK38SMTR2LFS-C%26K-Components-datasheet-117317067.pdf?src-supplier=Digikey; ComponentLink1Description: http://datasheet.octopart.com/PTS647SK38SMTR2LFS-C%26K-Components-datasheet-117317067.pdf?src-supplier=Digikey; ComponentLink2URL: https://www.ckswitches.com/media/2567/pts647.pdf?src-supplier=Digikey; ComponentLink2Description: https://www.ckswitches.com/media/2567/pts647.pdf?src-supplier=Digikey; ComponentLink3URL: http://datasheet.octopart.com/PTS647SK38SMTR2LFS-C%26K-Components-datasheet-117317067.pdf?src-supplier=Avnet; ComponentLink3Description: http://datasheet.octopart.com/PTS647SK38SMTR2LFS-C%26K-Components-datasheet-117317067.pdf?src-supplier=Avnet; ComponentLink4URL: http://datasheet.octopart.com/PTS647SK38SMTR2LFS-C%26K-Components-datasheet-117317067.pdf?src-supplier=Arrow+Electronics; ComponentLink4Description: http://datasheet.octopart.com/PTS647SK38SMTR2LFS-C%26K-Components-datasheet-117317067.pdf?src-supplier=Arrow+Electronics; ComponentLink5URL: http://datasheet.octopart.com/PTS647SK38SMTR2LFS-C%26K-Components-datasheet-117317067.pdf?src-supplier=Verical; ComponentLink5Description: http://datasheet.octopart.com/PTS647SK38SMTR2LFS-C%26K-Components-datasheet-117317067.pdf?src-supplier=Verical; ComponentLink6URL: http://datasheet.octopart.com/PTS647SK38SMTR2LFS-C%26K-Components-datasheet-117317067.pdf?src-supplier=Newark; ComponentLink6Description: http://datasheet.octopart.com/PTS647SK38SMTR2LFS-C%26K-Components-datasheet-117317067.pdf?src-supplier=Newark; ComponentLink7URL: http://datasheet.octopart.com/PTS647SK38SMTR2LFS-C%26K-Components-datasheet-117317067.pdf?src-supplier=Mouser; ComponentLink7Description: http://datasheet.octopart.com/PTS647SK38SMTR2LFS-C%26K-Components-datasheet-117317067.pdf?src-supplier=Mouser; ComponentLink8URL: http://datasheet.octopart.com/PTS647SK38SMTR2LFS-C%26K-Components-datasheet-117317067.pdf?src-supplier=Onlinecomponents.com; ComponentLink8Description: http://datasheet.octopart.com/PTS647SK38SMTR2LFS-C%26K-Components-datasheet-117317067.pdf?src-supplier=Onlinecomponents.com; ComponentLink9URL: http://datasheet.octopart.com/PTS647SK38SMTR2LFS-C%26K-Components-datasheet-117317067.pdf?src-supplier=Allied+Electronics; ComponentLink9Description: http://datasheet.octopart.com/PTS647SK38SMTR2LFS-C%26K-Components-datasheet-117317067.pdf?src-supplier=Allied+Electronics; ComponentLink10URL: https://datasheet.octopart.com/PTS647SK38SMTR2LFS-C%26K-Components-datasheet-156105943.pdf?src-supplier=TME; ComponentLink10Description: https://datasheet.octopart.com/PTS647SK38SMTR2LFS-C%26K-Components-datasheet-156105943.pdf?src-supplier=TME; ComponentLink11URL: http://datasheet.octopart.com/PTS647SK38SMTR2LFS-C%26K-Components-datasheet-117317067.pdf?src-supplier=Electro+Sonic; ComponentLink11Description: http://datasheet.octopart.com/PTS647SK38SMTR2LFS-C%26K-Components-datasheet-117317067.pdf?src-supplier=Electro+Sonic; ComponentLink12URL: http://datasheet.octopart.com/PTS647SK38SMTR2LFS-C%26K-Components-datasheet-117317067.pdf?src-supplier=TTI; ComponentLink12Description: http://datasheet.octopart.com/PTS647SK38SMTR2LFS-C%26K-Components-datasheet-117317067.pdf?src-supplier=TTI; ComponentLink13URL: http://datasheet.octopart.com/PTS647SK38SMTR2LFS-C%26K-Components-datasheet-117317067.pdf?src-supplier=Rutronik; ComponentLink13Description: http://datasheet.octopart.com/PTS647SK38SMTR2LFS-C%26K-Components-datasheet-117317067.pdf?src-supplier=Rutronik; ComponentLink14URL: http://datasheet.octopart.com/PTS647SK38SMTR2LFS-C%26K-Components-datasheet-117317067.pdf?src-supplier=LCSC; ComponentLink14Description: http://datasheet.octopart.com/PTS647SK38SMTR2LFS-C%26K-Components-datasheet-117317067.pdf?src-supplier=LCSC; ComponentLink15URL: http://datasheet.octopart.com/PTS647SK38SMTR2LFS-C%26K-Components-datasheet-117317067.pdf?src-supplier=Sager+Electronics; ComponentLink15Description: http://datasheet.octopart.com/PTS647SK38SMTR2LFS-C%26K-Components-datasheet-117317067.pdf?src-supplier=Sager+Electronics; LCSC Part Number: C2798978
footprint FP-PTS647SK38SMTR2LFS-MFG
pins: 1, 2, 3, 4

## SN74LV1T125DBVR
designator U?
IC BUFF NON-INVERT 5.5V SOT-23-5; Manufacturer: Texas Instruments; Package Body Material: Plastic; Output Polarity: True; Control Type: ENABLE LOW; Load Capacitance (CL): 30pF; Logic Type: BUS DRIVER; Max I(ol): 5.5mA; Number of Bits: 1; Number of Ports: 2; Output Characteristics: 3-STATE; Package Equivalence Code: TSOP5/6,.11,37; Power Supplies: 3.3V; Prop. Delay@Nom-Sup: 9ns; Propagation Delay (tpd): 14.5ns; Min Supply Voltage: 1.6V; Nominal Supply Voltage: 1.8V; Qualification Status: Not Qualified; Supplier: Digikey; Supplier Part Number: 296-37172-1-ND; Manufacturer Part Number: SN74LV1T125DBVR; RoHS: Yes; Category: Integrated Circuits (ICs); Stock: 62099; Pricing: 1=0,38, 10=0,265, 25=0,2364, 100=0,2042, 250=0,18884, 500=0,17962, 1000=0,17201 (USD); Case/Package: LSSOP; Pins: 5; Package Shape: Rectangular; Terminal Finish: Nickel; Min Operating Temperature: -40°C; Max Operating Temperature: 125°C; JESD-609 Code: e4; JESD-30 Code: R-PDSO-G5; Moisture Sensitivity Level: 1; Channels: 1; Package Style: SMALL OUTLINE, LOW PROFILE, SHRINK PITCHMeter; Packaging: Tape and Reel; Max Supply Voltage: 5.5V; Surface Mount: Yes; Technology: CMOS; Terminal Form: Gull Wing; Terminal Position: DUAL; Length: 2.9mm; Width: 1.6mm; Height - Seated (Max): 1.45mm; Terminal Pitch: 0.95mm; Temperature Grade: AUTOMOTIVE; Reach SVHC Compliant: Yes; RoHS Compliant: Yes; ComponentLink1URL: https://www.ti.com:443/lit/ds/symlink/sn74lv1t125.pdf?src-supplier=IHS+Markit; ComponentLink1Description: https://www.ti.com:443/lit/ds/symlink/sn74lv1t125.pdf?src-supplier=IHS+Markit; ComponentLink2URL: https://datasheet.ciiva.com/29888/sn74lv1t125-29888035.pdf?src-supplier=Avnet; ComponentLink2Description: https://datasheet.ciiva.com/29888/sn74lv1t125-29888035.pdf?src-supplier=Avnet; ComponentLink3URL: https://datasheet.ciiva.com/29634/sn74lv1t125-29634743.pdf?src-supplier=Digikey; ComponentLink3Description: https://datasheet.ciiva.com/29634/sn74lv1t125-29634743.pdf?src-supplier=Digikey; ComponentLink4URL: https://datasheet.ciiva.com/29634/sn74lv1t125-29634744.pdf?src-supplier=Digikey; ComponentLink4Description: https://datasheet.ciiva.com/29634/sn74lv1t125-29634744.pdf?src-supplier=Digikey; ComponentLink5URL: https://datasheet.ciiva.com/29634/sn74lv1t125-29634745.pdf?src-supplier=Digikey; ComponentLink5Description: https://datasheet.ciiva.com/29634/sn74lv1t125-29634745.pdf?src-supplier=Digikey; ComponentLink6URL: https://datasheet.ciiva.com/30038/sn74lv1t125-30038267.pdf?src-supplier=Avnet; ComponentLink6Description: https://datasheet.ciiva.com/30038/sn74lv1t125-30038267.pdf?src-supplier=Avnet; LCSC Part Number: C473338
footprint SOT95P280X145-5N
pins: 1 OE, 2 A, 3 GND, 4 Y, 5 VCC

## TL1963A-33DCYR
designator U?
IC REG LIN 3.3V 1.5A SOT-223-4; Manufacturer: Texas Instruments; Package Body Material: Plastic; Adjustability: FIXED; Dropout Voltage1-Max: 550mV; Dropout Voltage1-Nom: 340mV; Input Voltage Absolute-Max: 20V; Min Input Voltage: 3.8V; Channels: 1; Output Voltage1-Max: 3.4V; Output Voltage1-Min: 3.2V; Regulator Type: FIXED POSITIVE SINGLE OUTPUT LDO REGULATOR; Voltage Tolerance-Max: 3%; Qualification Status: Not Qualified; Supplier: Digikey; Supplier Part Number: 296-24897-1-ND; Manufacturer Part Number: TL1963A-33DCYR; RoHS: Yes; Category: Voltage Regulators - Linear; Stock: 1756; Pricing: 1=2,76, 10=2,062, 25=1,8864, 100=1,6934, 250=1,60148, 500=1,54604, 1000=1,50041 (USD); Case/Package: SOP; Pins: 4; Package Shape: Rectangular; Terminal Finish: Tin; JESD-609 Code: e3; Max Supply Voltage: 20V; JESD-30 Code: R-PDSO-G4; Moisture Sensitivity Level: 2; Number of Outputs: 1; Operating Temperature, TJ-Max: 125°C; Operating Temperature, TJ-Min: -40°C; Output Current1-Max: 1.5A; Output Voltage1-Nom: 3.3V; Packaging: Tape and Reel; Peak Reflow Temperature (Cel): 260°C; Surface Mount: Yes; Technology: BIPOLAR; Terminal Form: Gull Wing; Terminal Position: DUAL; Length: 6.5mm; Width: 3.5mm; Height - Seated (Max): 1.8mm; Terminal Pitch: 2.3mm; Reach SVHC Compliant: Yes; RoHS Compliant: Yes; ComponentLink1URL: https://www.ti.com:443/lit/ds/symlink/tl1963a.pdf?src-supplier=IHS+Markit; ComponentLink1Description: https://www.ti.com:443/lit/ds/symlink/tl1963a.pdf?src-supplier=IHS+Markit; ComponentLink2URL: https://datasheet.ciiva.com/2046/-2046068.pdf?src-supplier=Digikey; ComponentLink2Description: https://datasheet.ciiva.com/2046/-2046068.pdf?src-supplier=Digikey; LCSC Part Number: C181262
footprint DCY0004A_N (SOT223, 4-Leads, Body 6.7x3.7mm, Pitch 2.3mm, IPC Medium Density)
pins: 1 IN (power) "Input. Power is supplied to the device through the IN pin. A bypass capacitor is required on this pin if the device is more than six inches away from the main input filter capacitor. In general, the output impedance of a (See Datasheet)", 2 GND (power) "Ground", 3 OUT (power) "Output. The output supplies power to the load. A minimum output capacitor (ceramic) of 10 uF is required to prevent oscillations. Larger output capacitors are required for applications with large transient loads to limit (See Datasheet)", 4 GND (power) "Ground"

## VLMS1300-GS08
designator D?
LED RED 0603 SMD; Manufacturer: Vishay Semiconductors; Shape: Rectangular; Additional Feature: HIGH RELIABILITY; Forward Current: 30mA; Forward Voltage: 2.4V; Luminous Intensity-Nom: 54mcd; Channels: 1; Optoelectronic Device Type: SINGLE COLOR LED; Reverse Voltage-Max: 5V; Viewing Angle: 130°; Overall Height: 0.8mm; Supplier: Digikey; Supplier Part Number: VLMS1300-GS08CT-ND; Manufacturer Part Number: VLMS1300-GS08; RoHS: Yes; Category: LEDs; Stock: 56745; Pricing: 1=0,21, 10=0,143, 100=0,0998, 500=0,07982, 1000=0,07322 (USD); Mounting Technology: Surface Mount; Pins: 2; Color: Red; Color@wavelength: Red; Min Operating Temperature: -35°C; Max Operating Temperature: 85°C; Packaging: Tape and Reel; Size: 1.1mm; Terminal Pitch: 1.5mm; Reach SVHC Compliant: Yes; RoHS Compliant: Yes; ComponentLink1URL: https://datasheet.ciiva.com:443/pdfs/VipMasterIC/IC/VISH/VISH-S-A0004564149/VISH-S-A0004564149-1.pdf?src-supplier=IHS+Markit; ComponentLink1Description: https://datasheet.ciiva.com:443/pdfs/VipMasterIC/IC/VISH/VISH-S-A0004564149/VISH-S-A0004564149-1.pdf?src-supplier=IHS+Markit; ComponentLink2URL: https://datasheet.ciiva.com/2114/vlmo1300-2114931.pdf?src-supplier=Digikey; ComponentLink2Description: https://datasheet.ciiva.com/2114/vlmo1300-2114931.pdf?src-supplier=Digikey; ComponentLink3URL: https://datasheet.ciiva.com/26322/vlmo1300-26322153.pdf?src-supplier=Element14; ComponentLink3Description: https://datasheet.ciiva.com/26322/vlmo1300-26322153.pdf?src-supplier=Element14; ComponentLink4URL: https://datasheet.ciiva.com/8028/vlmo1300-8028047.pdf?src-supplier=Element14; ComponentLink4Description: https://datasheet.ciiva.com/8028/vlmo1300-8028047.pdf?src-supplier=Element14; LCSC Part Number: C83242
footprint LED_VISHAY_VLMX1300_VIS
pins: 1, 2